# EAGLE library part TL431 (library oldchips2)
Programmable precision reference
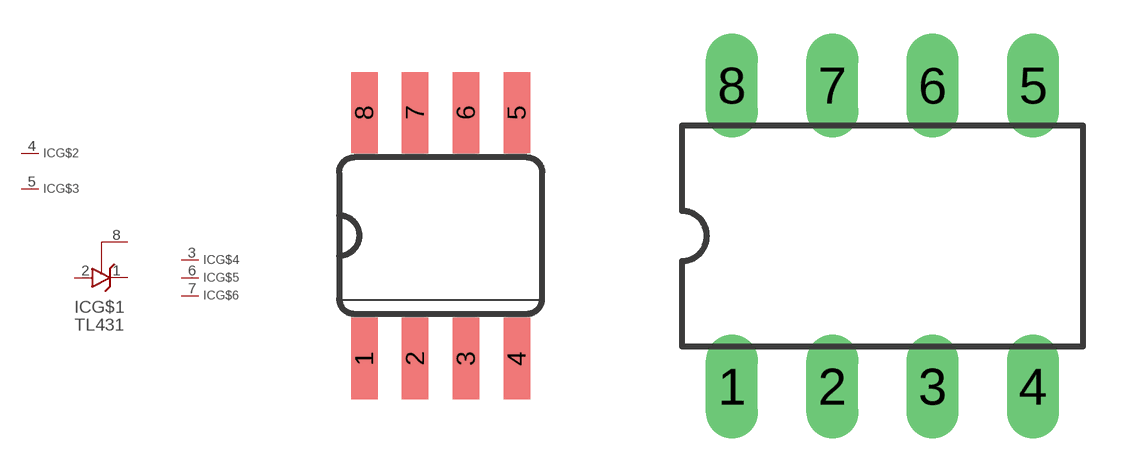
[diagram p4: symbol with the pads of SO08; footprints SO08, DIL08]

Designator prefix IC; gates G$1=LM336 G$2=NC G$3=NC G$4=NC G$5=NC G$6=NC

## TL431D  [SO08]
1  G$1:C  pas
2  G$1:A  pas
3  G$4:NC  nc
4  G$2:NC  nc
5  G$3:NC  nc
6  G$5:NC  nc
7  G$6:NC  nc
8  G$1:R  pas

## TL431P  [DIL08]
1  G$1:C  pas
2  G$2:NC  nc
3  G$3:NC  nc
4  G$4:NC  nc
5  G$5:NC  nc
6  G$1:A  pas
7  G$6:NC  nc
8  G$1:R  pas

## Footprint SO08 (pad centres in mm)
Small Outline package 150 mil
smd 0.66 x 2.032: 1 -1.905,-3.073; 2 -0.635,-3.073; 3 0.635,-3.073; 4 1.905,-3.073; 5 1.905,3.073; 6 0.635,3.073; 7 -0.635,3.073; 8 -1.905,3.073

## Footprint DIL08 (pad centres in mm)
Dual In Line
drill 0.813 long: 1 -3.81,-3.81; 2 -1.27,-3.81; 3 1.27,-3.81; 4 3.81,-3.81; 5 3.81,3.81; 6 1.27,3.81; 7 -1.27,3.81; 8 -3.81,3.81